# Altium footprint library LT3060EDC15TRMPBF.PcbLib: 3 footprints
Each footprint in its own frame and in the unit in brackets; x right, y up, seen from the top. Pads: shape width x height; smd on the part's side, far side on the other; paste and mask are expansions set on the pad; w line width, h text height; cw(c..) or ccw(c..) is an arc to the next point about the centre after c.
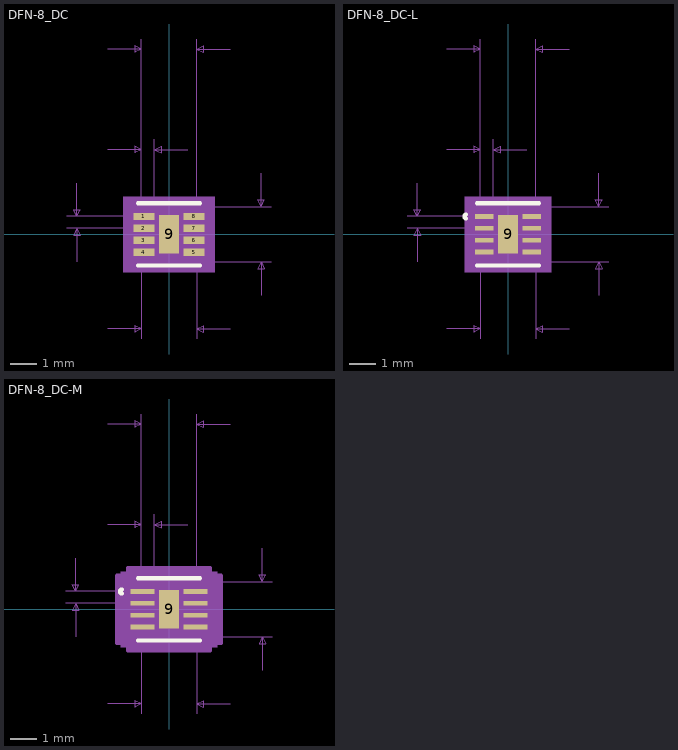
[diagram p0: the footprints below, top view; thin cyan lines are the x and y axes]

## DFN-8_DC [mm]
pads (9):
  rect 0.805x0.28 smd: 1(-0.952,0.675) 2(-0.952,0.225) 3(-0.952,-0.225) 4(-0.952,-0.675) 5(0.952,-0.675) 6(0.952,-0.225) 7(0.952,0.225) 8(0.952,0.675)
  rect 0.74x1.47 smd paste-0.722 mask+0: 9(0,0)
Top Overlay:
  lines w0.152: -1.177,-1.177 1.177,-1.177 ; -1.177,1.177 1.177,1.177
Top Paste:
  region: 0.37,0.735 -0.37,0.735 -0.37,-0.735 0.37,-0.735
Mechanical 5:
  region: 1.736,-1.431 -1.736,-1.431 -1.736,1.431 1.736,1.431
Mechanical 7:
  lines w0.025: -3.873,0.225 -0.952,0.225 ; -3.873,0.675 -0.952,0.675 ; -3.492,-1.045 -3.492,0.225 ; -3.492,1.945 -3.492,0.675 ; -2.32,-3.59 -1.05,-3.59 ; -2.32,3.215 -1.05,3.215 ; -2.32,7.025 -1.05,7.025 ; -1.05,-3.971 -1.05,-1.05 ; -1.05,3.596 -1.05,0.675 -1.05,7.406 ; -0.55,0.675 -0.55,3.596 ; 0.72,3.215 -0.55,3.215 ; 1.05,-3.971 1.05,-1.05 3.873,-1.05 ; 1.05,0.675 1.05,7.406 ; 1.05,1.05 3.873,1.05 ; 2.32,-3.59 1.05,-3.59 ; 2.32,7.025 1.05,7.025 ; 3.492,-2.32 3.492,-1.05 ; 3.492,2.32 3.492,1.05 ; -3.492,0.225 -3.619,-0.029 -3.365,-0.029 -3.492,0.225 ; -3.492,0.675 -3.619,0.929 -3.365,0.929 -3.492,0.675 ; -1.05,-3.59 -1.304,-3.463 -1.304,-3.717 -1.05,-3.59 ; -1.05,3.215 -1.304,3.342 -1.304,3.088 -1.05,3.215 ; -1.05,7.025 -1.304,7.152 -1.304,6.898 -1.05,7.025 ; -0.55,3.215 -0.296,3.342 -0.296,3.088 -0.55,3.215 ; 1.05,-3.59 1.304,-3.463 1.304,-3.717 1.05,-3.59 ; 1.05,7.025 1.304,7.152 1.304,6.898 1.05,7.025 ; 3.492,-1.05 3.365,-1.304 3.619,-1.304 3.492,-1.05 ; 3.492,1.05 3.365,1.304 3.619,1.304 3.492,1.05
  text "Default Padstyle: RX31p69Y11p02D0T" at -10.795,-10.448 h1.27
  text "Heat Tab Padstyle: RX29p13Y57p87D0T" at -11.112,-11.972 h1.27
  text "Alt 1 Padstyle: OX60Y90D30P" at -8.572,-15.02 h1.27
  text "Alt 2 Padstyle: OX90Y60D30P" at -8.572,-16.544 h1.27
  text "0.083in/2.1mm" at -2.064,7.533 h0.64
  text "0.02in/0.5mm" at -2.705,3.723 h0.64
  text "0.018in/0.45mm" at -8.445,0.132 h0.64
  text "0.083in/2.1mm" at 4,-0.318 h0.64
  text "0.083in/2.1mm" at -2.064,-4.733 h0.64
Mechanical 13:
  lines w0: -0.305,1.05 ccw(c0,1.05) 0.305,1.05
  lines w0.025: -1.05,-1.05 1.05,-1.05 1.05,1.05 -1.05,1.05 -1.05,-1.05
Mechanical 15:
  region: -1.304,-1.069 -1.609,-1.069 -1.609,1.069 -1.304,1.069 -1.304,1.304 1.304,1.304 1.304,1.069 1.609,1.069 1.609,-1.069 1.304,-1.069 1.304,-1.304 -1.304,-1.304
  lines w0.152: -1.609,-1.069 -1.609,1.069 -1.304,1.069 -1.304,1.304 1.304,1.304 1.304,1.069 1.609,1.069 1.609,-1.069 1.304,-1.069 1.304,-1.304 -1.304,-1.304 -1.304,-1.069 -1.609,-1.069
3D body: height 0.25, standoff 0, extent 0,0 0.254,0.254

## DFN-8_DC-L [mm]
pads (9):
  rect 0.703x0.178 smd paste+0 mask+0: 1(-0.902,0.675) 2(-0.902,0.225) 3(-0.902,-0.225) 4(-0.902,-0.675) 5(0.902,-0.675) 6(0.902,-0.225) 7(0.902,0.225) 8(0.902,0.675)
  rect 0.74x1.47 smd paste-0.722 mask+0: 9(0,0)
Top Overlay:
  lines w0.152: -1.586,0.599 cw(c-1.58,0.675) -1.586,0.751 ; -1.177,-1.177 1.177,-1.177 ; -1.177,1.177 1.177,1.177
Top Paste:
  region: 0.37,0.735 -0.37,0.735 -0.37,-0.735 0.37,-0.735
Mechanical 5:
  region: 1.634,-1.431 -1.634,-1.431 -1.634,1.431 1.634,1.431
Mechanical 7:
  lines w0.025: -3.823,0.225 -0.902,0.225 ; -3.823,0.675 -0.902,0.675 ; -3.442,-1.045 -3.442,0.225 ; -3.442,1.945 -3.442,0.675 ; -2.32,-3.59 -1.05,-3.59 ; -2.32,3.215 -1.05,3.215 ; -2.32,7.025 -1.05,7.025 ; -1.05,-3.971 -1.05,-1.05 ; -1.05,3.596 -1.05,0.675 -1.05,7.406 ; -0.55,0.675 -0.55,3.596 ; 0.72,3.215 -0.55,3.215 ; 1.05,-3.971 1.05,-1.05 3.823,-1.05 ; 1.05,0.675 1.05,7.406 ; 1.05,1.05 3.823,1.05 ; 2.32,-3.59 1.05,-3.59 ; 2.32,7.025 1.05,7.025 ; 3.442,-2.32 3.442,-1.05 ; 3.442,2.32 3.442,1.05 ; -3.442,0.225 -3.569,-0.029 -3.315,-0.029 -3.442,0.225 ; -3.442,0.675 -3.569,0.929 -3.315,0.929 -3.442,0.675 ; -1.05,-3.59 -1.304,-3.463 -1.304,-3.717 -1.05,-3.59 ; -1.05,3.215 -1.304,3.342 -1.304,3.088 -1.05,3.215 ; -1.05,7.025 -1.304,7.152 -1.304,6.898 -1.05,7.025 ; -0.55,3.215 -0.296,3.342 -0.296,3.088 -0.55,3.215 ; 1.05,-3.59 1.304,-3.463 1.304,-3.717 1.05,-3.59 ; 1.05,7.025 1.304,7.152 1.304,6.898 1.05,7.025 ; 3.442,-1.05 3.315,-1.304 3.569,-1.304 3.442,-1.05 ; 3.442,1.05 3.315,1.304 3.569,1.304 3.442,1.05
  text "Default Padstyle: RX27p69Y7p02D0T" at -10.477,-10.448 h1.27
  text "Heat Tab Padstyle: RX29p13Y57p87D0T" at -11.112,-11.972 h1.27
  text "Alt 1 Padstyle: OX60Y90D30P" at -8.572,-15.02 h1.27
  text "Alt 2 Padstyle: OX90Y60D30P" at -8.572,-16.544 h1.27
  text "0.083in/2.1mm" at -2.064,7.533 h0.64
  text "0.02in/0.5mm" at -2.705,3.723 h0.64
  text "0.018in/0.45mm" at -8.395,0.132 h0.64
  text "0.083in/2.1mm" at 3.95,-0.318 h0.64
  text "0.083in/2.1mm" at -2.064,-4.733 h0.64
Mechanical 13:
  lines w0: -0.305,1.05 ccw(c0,1.05) 0.305,1.05
  lines w0.025: -1.05,-1.05 1.05,-1.05 1.05,1.05 -1.05,1.05 -1.05,-1.05
Mechanical 15:
  region: -1.152,-0.866 -1.355,-0.866 -1.355,0.866 -1.152,0.866 -1.152,1.152 1.152,1.152 1.152,0.866 1.355,0.866 1.355,-0.866 1.152,-0.866 1.152,-1.152 -1.152,-1.152
  lines w0.152: -1.355,-0.866 -1.355,0.866 -1.152,0.866 -1.152,1.152 1.152,1.152 1.152,0.866 1.355,0.866 1.355,-0.866 1.152,-0.866 1.152,-1.152 -1.152,-1.152 -1.152,-0.866 -1.355,-0.866
3D body: height 0.25, standoff 0, extent 0,0 0.254,0.254

## DFN-8_DC-M [mm]
pads (9):
  rect 0.906x0.178 smd paste+0 mask+0: 1(-1.003,0.675) 2(-1.003,0.225) 3(-1.003,-0.225) 4(-1.003,-0.675) 5(1.003,-0.675) 6(1.003,-0.225) 7(1.003,0.225) 8(1.003,0.675)
  rect 0.74x1.47 smd paste-0.722 mask+0: 9(0,0)
Top Overlay:
  lines w0.152: -1.789,0.599 cw(c-1.783,0.675) -1.789,0.751 ; -1.177,-1.177 1.177,-1.177 ; -1.177,1.177 1.177,1.177
Top Paste:
  region: 0.37,0.735 -0.37,0.735 -0.37,-0.735 0.37,-0.735
Mechanical 5:
  region: 1.837,-1.431 -1.837,-1.431 -1.837,1.431 1.837,1.431
Mechanical 7:
  lines w0.025: -3.924,0.225 -1.003,0.225 ; -3.924,0.675 -1.003,0.675 ; -3.543,-1.045 -3.543,0.225 ; -3.543,1.945 -3.543,0.675 ; -2.32,-3.59 -1.05,-3.59 ; -2.32,3.215 -1.05,3.215 ; -2.32,7.025 -1.05,7.025 ; -1.05,-3.971 -1.05,-1.05 ; -1.05,3.596 -1.05,0.675 -1.05,7.406 ; -0.55,0.675 -0.55,3.596 ; 0.72,3.215 -0.55,3.215 ; 1.05,-3.971 1.05,-1.05 3.924,-1.05 ; 1.05,0.675 1.05,7.406 ; 1.05,1.05 3.924,1.05 ; 2.32,-3.59 1.05,-3.59 ; 2.32,7.025 1.05,7.025 ; 3.543,-2.32 3.543,-1.05 ; 3.543,2.32 3.543,1.05 ; -3.543,0.225 -3.67,-0.029 -3.416,-0.029 -3.543,0.225 ; -3.543,0.675 -3.67,0.929 -3.416,0.929 -3.543,0.675 ; -1.05,-3.59 -1.304,-3.463 -1.304,-3.717 -1.05,-3.59 ; -1.05,3.215 -1.304,3.342 -1.304,3.088 -1.05,3.215 ; -1.05,7.025 -1.304,7.152 -1.304,6.898 -1.05,7.025 ; -0.55,3.215 -0.296,3.342 -0.296,3.088 -0.55,3.215 ; 1.05,-3.59 1.304,-3.463 1.304,-3.717 1.05,-3.59 ; 1.05,7.025 1.304,7.152 1.304,6.898 1.05,7.025 ; 3.543,-1.05 3.416,-1.304 3.67,-1.304 3.543,-1.05 ; 3.543,1.05 3.416,1.304 3.67,1.304 3.543,1.05
  text "Default Padstyle: RX35p69Y7p02D0T" at -10.477,-10.448 h1.27
  text "Heat Tab Padstyle: RX29p13Y57p87D0T" at -11.112,-11.972 h1.27
  text "Alt 1 Padstyle: OX60Y90D30P" at -8.572,-15.02 h1.27
  text "Alt 2 Padstyle: OX90Y60D30P" at -8.572,-16.544 h1.27
  text "0.083in/2.1mm" at -2.064,7.533 h0.64
  text "0.02in/0.5mm" at -2.705,3.723 h0.64
  text "0.018in/0.45mm" at -8.496,0.132 h0.64
  text "0.083in/2.1mm" at 4.051,-0.318 h0.64
  text "0.083in/2.1mm" at -2.064,-4.733 h0.64
Mechanical 13:
  lines w0: -0.305,1.05 ccw(c0,1.05) 0.305,1.05
  lines w0.025: -1.05,-1.05 1.05,-1.05 1.05,1.05 -1.05,1.05 -1.05,-1.05
Mechanical 15:
  region: -1.558,-1.272 -1.964,-1.272 -1.964,1.272 -1.558,1.272 -1.558,1.558 1.558,1.558 1.558,1.272 1.964,1.272 1.964,-1.272 1.558,-1.272 1.558,-1.558 -1.558,-1.558
  lines w0.152: -1.964,-1.272 -1.964,1.272 -1.558,1.272 -1.558,1.558 1.558,1.558 1.558,1.272 1.964,1.272 1.964,-1.272 1.558,-1.272 1.558,-1.558 -1.558,-1.558 -1.558,-1.272 -1.964,-1.272
3D body: height 0.25, standoff 0, extent 0,0 0.254,0.254